# EAGLE library part STM32G0B1KET6 (library tecsmith_stm32)
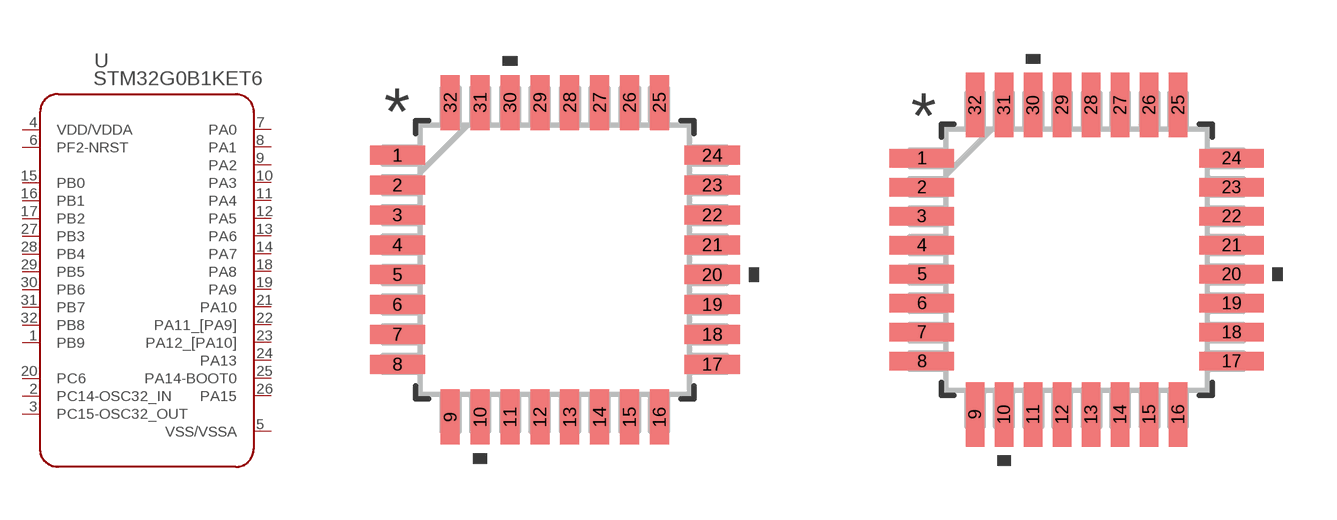
[diagram p5: symbol with the pads of LQFP32_STM; footprints LQFP32_STM, LQFP32_STM-M]

Designator prefix U

## STM32G0B1KET6 (COPYRIGHT: Copyright (C) 2025 Ultra Librarian. All rights reserved.; DATASHEET: https://www.st.com/resource/en/datasheet/stm32g0b1cc.pdf; DESCRIPTION: Mainstream Arm Cortex-M0+ 32-bit MCU, up to 512KB Flash, 144KB RAM, 6x USART, timers, ADC, DAC, comm. I/Fs, 1.7-3.6V; MANUFACTURER_NAME: STMicroelectronics; MANUFACTURER_PART_NUMBER: STM32G0B1KET6)  [LQFP32_STM]
1  PB9
2  PC14-OSC32_IN
3  PC15-OSC32_OUT  out
4  VDD/VDDA  pwr
5  VSS/VSSA  pas
6  PF2-NRST  pas
7  PA0
8  PA1
9  PA2
10  PA3
11  PA4
12  PA5
13  PA6
14  PA7
15  PB0
16  PB1
17  PB2
18  PA8
19  PA9
20  PC6
21  PA10
22  PA11_[PA9]
23  PA12_[PA10]
24  PA13
25  PA14-BOOT0
26  PA15
27  PB3
28  PB4
29  PB5
30  PB6
31  PB7
32  PB8

## STM32G0B1KET6LQFP_0B1KET6_STM-M (COPYRIGHT: Copyright (C) 2025 Ultra Librarian. All rights reserved.; DATASHEET: https://www.st.com/resource/en/datasheet/stm32g0b1cc.pdf; DESCRIPTION: Mainstream Arm Cortex-M0+ 32-bit MCU, up to 512KB Flash, 144KB RAM, 6x USART, timers, ADC, DAC, comm. I/Fs, 1.7-3.6V; MANUFACTURER_NAME: STMicroelectronics; MANUFACTURER_PART_NUMBER: STM32G0B1KET6)  [LQFP32_STM-M]
Pads as for LQFP32_STM

## STM32G0B1KET6LQFP_0B1KET6_STM-L (COPYRIGHT: Copyright (C) 2025 Ultra Librarian. All rights reserved.; DATASHEET: https://www.st.com/resource/en/datasheet/stm32g0b1cc.pdf; DESCRIPTION: Mainstream Arm Cortex-M0+ 32-bit MCU, up to 512KB Flash, 144KB RAM, 6x USART, timers, ADC, DAC, comm. I/Fs, 1.7-3.6V; MANUFACTURER_NAME: STMicroelectronics; MANUFACTURER_PART_NUMBER: STM32G0B1KET6)  [LQFP32_STM-L]
Pads as for LQFP32_STM

## Footprint LQFP32_STM (pad centres in mm)
smd 1.473 x 0.508: 1 -4.216,2.8; 2 -4.216,2; 3 -4.216,1.2; 4 -4.216,0.4; 5 -4.216,-0.4; 6 -4.216,-1.2; 7 -4.216,-2; 8 -4.216,-2.8; 17 4.216,-2.8; 18 4.216,-2; 19 4.216,-1.2; 20 4.216,-0.4; 21 4.216,0.4; 22 4.216,1.2; 23 4.216,2; 24 4.216,2.8
smd 0.508 x 1.473: 9 -2.8,-4.216; 10 -2,-4.216; 11 -1.2,-4.216; 12 -0.4,-4.216; 13 0.4,-4.216; 14 1.2,-4.216; 15 2,-4.216; 16 2.8,-4.216; 25 2.8,4.216; 26 2,4.216; 27 1.2,4.216; 28 0.4,4.216; 29 -0.4,4.216; 30 -1.2,4.216; 31 -2,4.216; 32 -2.8,4.216

## Footprint LQFP32_STM-M (pad centres in mm)
smd 1.778 x 0.508: 1 -4.267,2.8; 2 -4.267,2; 3 -4.267,1.2; 4 -4.267,0.4; 5 -4.267,-0.4; 6 -4.267,-1.2; 7 -4.267,-2; 8 -4.267,-2.8; 17 4.267,-2.8; 18 4.267,-2; 19 4.267,-1.2; 20 4.267,-0.4; 21 4.267,0.4; 22 4.267,1.2; 23 4.267,2; 24 4.267,2.8
smd 0.508 x 1.778: 9 -2.8,-4.267; 10 -2,-4.267; 11 -1.2,-4.267; 12 -0.4,-4.267; 13 0.4,-4.267; 14 1.2,-4.267; 15 2,-4.267; 16 2.8,-4.267; 25 2.8,4.267; 26 2,4.267; 27 1.2,4.267; 28 0.4,4.267; 29 -0.4,4.267; 30 -1.2,4.267; 31 -2,4.267; 32 -2.8,4.267

## Footprint LQFP32_STM-L (pad centres in mm)
smd 1.168 x 0.457: 1 -4.166,2.8; 2 -4.166,2; 3 -4.166,1.2; 4 -4.166,0.4; 5 -4.166,-0.4; 6 -4.166,-1.2; 7 -4.166,-2; 8 -4.166,-2.8; 17 4.166,-2.8; 18 4.166,-2; 19 4.166,-1.2; 20 4.166,-0.4; 21 4.166,0.4; 22 4.166,1.2; 23 4.166,2; 24 4.166,2.8
smd 0.457 x 1.168: 9 -2.8,-4.166; 10 -2,-4.166; 11 -1.2,-4.166; 12 -0.4,-4.166; 13 0.4,-4.166; 14 1.2,-4.166; 15 2,-4.166; 16 2.8,-4.166; 25 2.8,4.166; 26 2,4.166; 27 1.2,4.166; 28 0.4,4.166; 29 -0.4,4.166; 30 -1.2,4.166; 31 -2,4.166; 32 -2.8,4.166